# Altium integrated library LM3481QMMX_NOPB.IntLib: 1 symbol
Pins are listed as number, name and electrical type; pins without a type are passive.

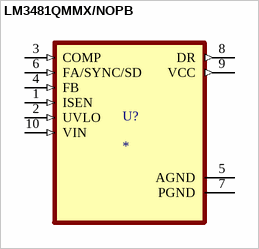
[diagram p0: symbol LM3481QMMX/NOPB]

## LM3481QMMX/NOPB
designator U?
MP: LM3481QMMX/NOPB; Package: None; Price: None; Value: *; Availability: Unavailable
footprint SOP50P490X110-10N
pins: 1 ISEN (in), 2 UVLO (in), 3 COMP (in), 4 FB (in), 5 AGND (power), 6 FA/SYNC/SD (in), 7 PGND (power), 8 DR (out), 9 VCC (out), 10 VIN (in)